# EAGLE library part MODULE_DRV8842 (library microLib)
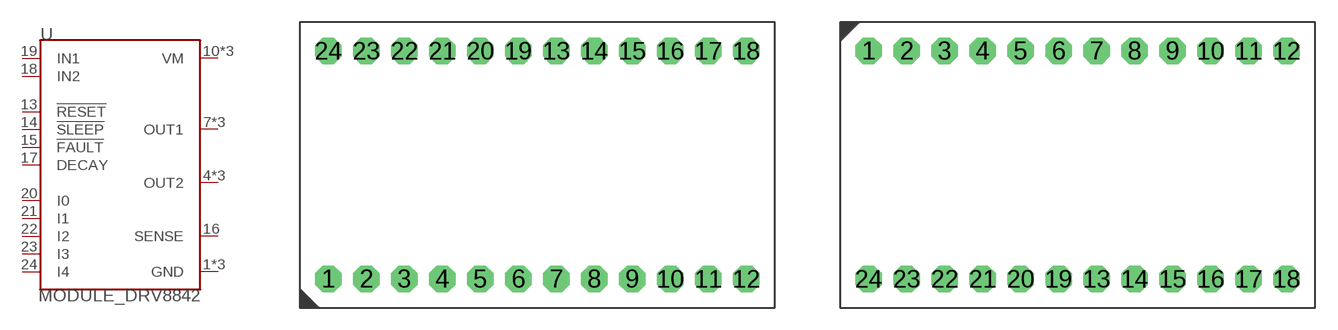
[diagram p23: symbol with the pads of MODULE_DRV884X; footprints MODULE_DRV884X, MODULE_DRV884X_REV]

Designator prefix -

## MODULE_DRV8842UP  [MODULE_DRV884X]
1  GND
2  GND
3  GND
4  OUT2
5  OUT2
6  OUT2
7  OUT1
8  OUT1
9  OUT1
10  VM
11  VM
12  VM
13  !RESET!
14  !SLEEP!
15  !FAULT!
16  SENSE
17  DECAY
18  IN2
19  IN1
20  I0
21  I1
22  I2
23  I3
24  I4

## MODULE_DRV8842REV  [MODULE_DRV884X_REV]
Pads as for MODULE_DRV884X

## Footprint MODULE_DRV884X (pad centres in mm)
drill 1.1 pad 1.778 octagon: 1 -13.97,1.905; 2 -11.43,1.905; 3 -8.89,1.905; 4 -6.35,1.905; 5 -3.81,1.905; 6 -1.27,1.905; 7 1.27,1.905; 8 3.81,1.905; 9 6.35,1.905; 10 8.89,1.905; 11 11.43,1.905; 12 13.97,1.905; 13 1.27,17.145; 14 3.81,17.145; 15 6.35,17.145; 16 8.89,17.145; 17 11.43,17.145; 18 13.97,17.145; 19 -1.27,17.145; 20 -3.81,17.145; 21 -6.35,17.145; 22 -8.89,17.145; 23 -11.43,17.145; 24 -13.97,17.145

## Footprint MODULE_DRV884X_REV (pad centres in mm)
drill 1.1 pad 1.778 octagon: 1 -13.97,17.145; 2 -11.43,17.145; 3 -8.89,17.145; 4 -6.35,17.145; 5 -3.81,17.145; 6 -1.27,17.145; 7 1.27,17.145; 8 3.81,17.145; 9 6.35,17.145; 10 8.89,17.145; 11 11.43,17.145; 12 13.97,17.145; 13 1.27,1.905; 14 3.81,1.905; 15 6.35,1.905; 16 8.89,1.905; 17 11.43,1.905; 18 13.97,1.905; 19 -1.27,1.905; 20 -3.81,1.905; 21 -6.35,1.905; 22 -8.89,1.905; 23 -11.43,1.905; 24 -13.97,1.905